# Altium footprint library SM_SOT-23-5.PcbLib: 1 footprints
Each footprint in its own frame and in the unit in brackets; x right, y up, seen from the top. Pads: shape width x height; smd on the part's side, far side on the other; paste and mask are expansions set on the pad; w line width, h text height; cw(c..) or ccw(c..) is an arc to the next point about the centre after c.
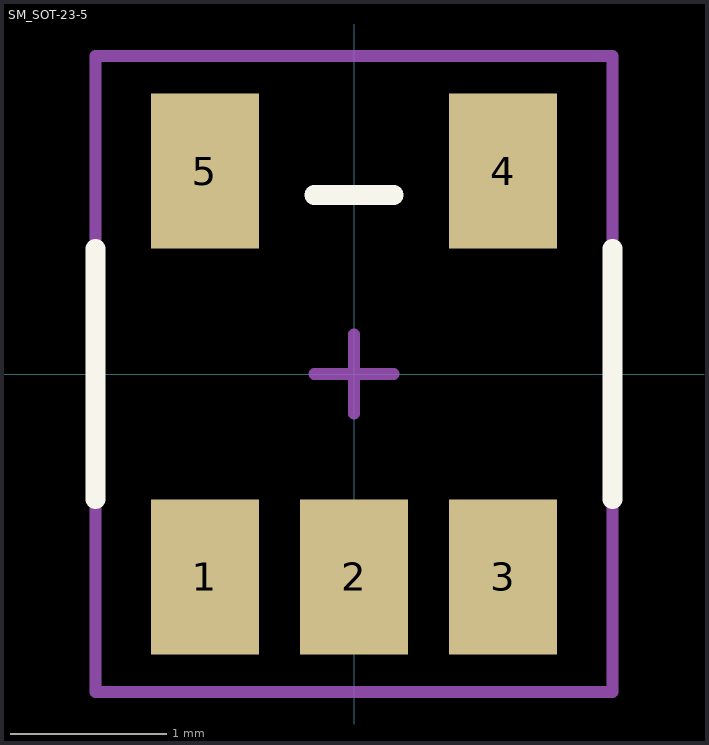
[diagram p0: the footprint, top view; thin cyan lines are the x and y axes]

## SM_SOT-23-5 [mm]
pads (5):
  rect 0.69x0.99 smd: 1(-0.953,-1.295) 2(0,-1.295) 3(0.953,-1.295) 4(0.953,1.295) 5(-0.953,1.295)
Top Overlay:
  lines w0.127: -1.651,-0.8 -1.651,0.8 ; -0.254,1.143 0.254,1.143 ; 1.651,-0.8 1.651,0.8
Mechanical 15:
  lines w0.076: -0.254,0 0.254,0 ; 0,-0.254 0,0.254 ; -1.651,-2.032 1.651,-2.032 1.651,2.032 -1.651,2.032 -1.651,-2.032
3D body "User Library-SOT-23-5.STEP": height 1.44, standoff -0.02, extent -1.5,-1.5 1.5,1.5